# Altium schematic symbol library LibraryTD.SchLib: 40 symbols
Pins are listed as number, name and electrical type; pins without a type are passive.

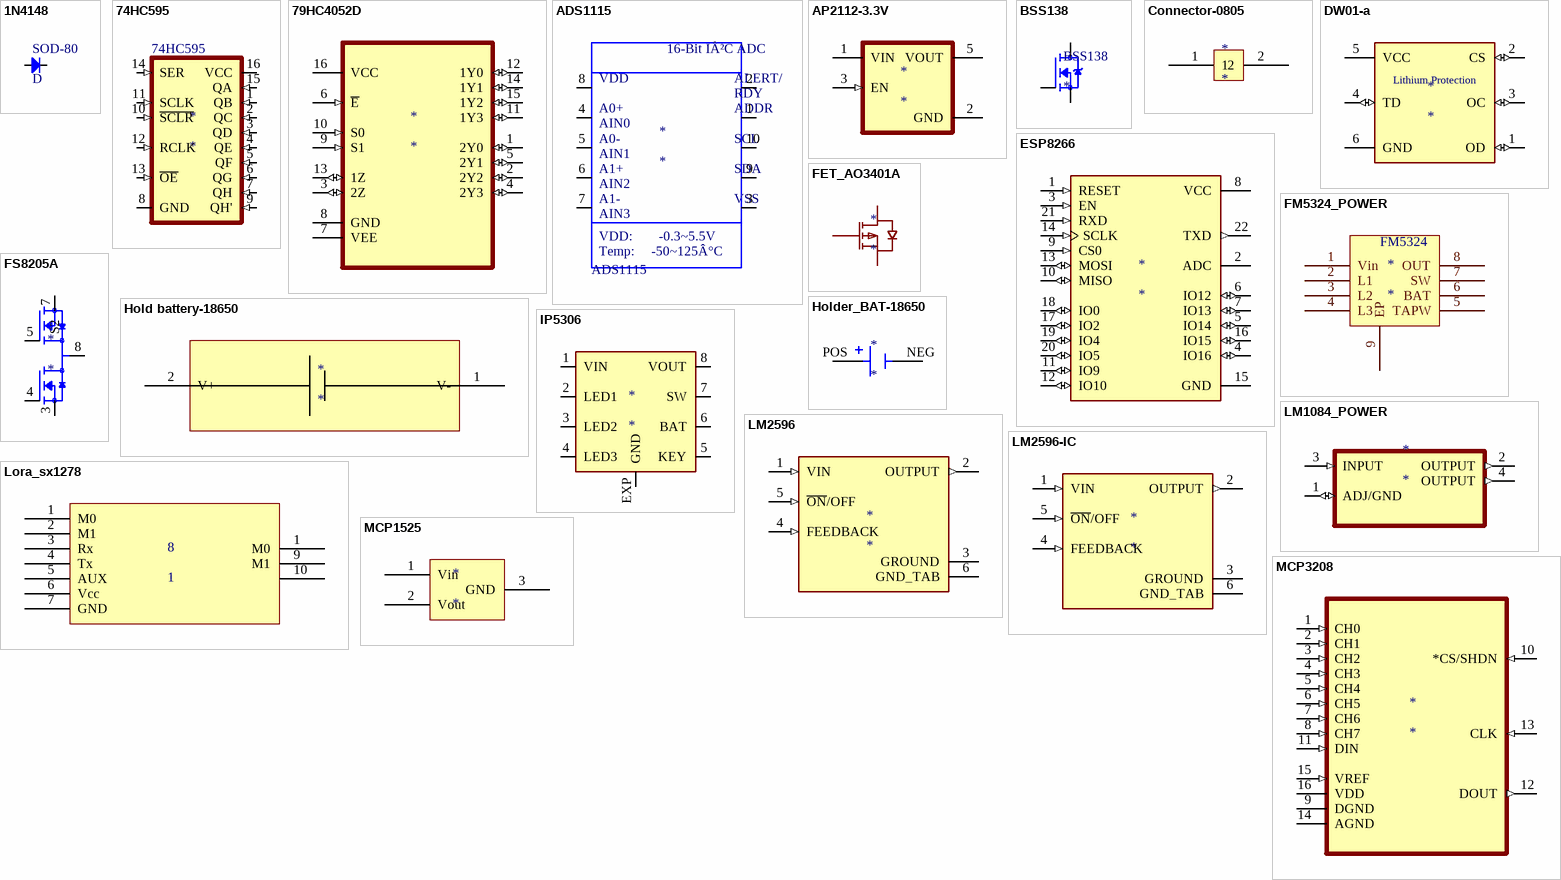
[diagram p0: symbols 1N4148 to MCP3208]

## 1N4148
designator SOD-80, comment D
footprint SOD-80
pins: 1 A, 2 K

## 74HC595
designator *
footprint SSOP-16PIN (IC 16PIN)
pins: 1 QB (in), 2 QC (in), 3 QD (in), 4 QE (in), 5 QF (in), 6 QG (in), 7 QH (in), 8 GND (power), 9 QH' (in), 10 ~{SCLR} (in), 11 SCLK (in), 12 RCLK (in), 13 ~{OE} (in), 14 SER (in), 15 QA (in), 16 VCC (power)

## 79HC4052D
designator *
footprint 74HC4052D
pins: 1 2Y0 (io), 2 2Y2 (io), 3 2Z (io), 4 2Y3 (io), 5 2Y1 (io), 6 ~{E} (in), 7 VEE (power), 8 GND, 9 S1 (in), 10 S0 (in), 11 1Y3 (io), 12 1Y0 (io), 13 1Z (io), 14 1Y1 (io), 15 1Y2 (io), 16 VCC (power)

## ADS1115
designator *
footprint MSOP-10
pins: 1 ADDR (io), 2 ALERT/RDY (io), 3 VSS (io), 4 AIN0 (io), 5 AIN1 (io), 6 AIN2 (io), 7 AIN3 (io), 8 VDD (io), 9 SDA (io), 10 SCL (io)
text: 16-Bit IÂ²C ADC; ALERT/; RDY; A0+; A0-; A1+; A1-; VDD:; -0.3~5.5V; Temp:; -50~125Â°C

## AP2112-3.3V
designator *
footprint sot-95
pins: 1 VIN (power), 2 GND (power), 3 EN (in), 5 VOUT (power)

## BSS138
designator BSS138
footprint SOT95
pins: 1 G, 2 S, 3 D

## Connector-0805
designator *
footprint Jump-CONNECT
pins: 1, 2

## DW01-a
designator *
footprint DW01-a
pins: 1 OD (io), 2 CS (io), 3 OC (io), 4 TD (io), 5 VCC (power), 6 GND (power)
text: Lithium Protection

## ESP8266
designator *
footprint ESP8266
pins: 1 RESET (in), 2 ADC, 3 EN (in), 4 IO16 (io), 5 IO14 (io), 6 IO12 (io), 7 IO13 (io), 8 VCC (power), 9 CS0 (in), 10 MISO (io), 11 IO9 (io), 12 IO10 (io), 13 MOSI (io), 14 SCLK (in), 15 GND (power), 16 IO15 (io), 17 IO2 (io), 18 IO0 (io), 19 IO4 (io), 20 IO5 (io), 21 RXD (in), 22 TXD (out)

## FET_AO3401A
designator *
footprint AO3401a
pins: 1 G, 2 S, 3 D

## FM5324_POWER
designator *
footprint SOIC_8
pins: 1 Vin, 2 L1, 3 L2, 4 L3, 5 TAPW, 6 BAT, 7 SW, 8 OUT, 9 EP
text: FM5324

## FS8205A
designator *
footprint FS8205A (mosfet)
pins: 1 D12, 2 S1, 3 S1, 4 G1, 5 G2, 6 S2, 7 S2, 8 D12

## Hold battery-18650
designator *
footprint Hold Battery 18650 x1
pins: 1 V-, 2 V+

## Holder_BAT-18650
designator *
footprint Holder_BAT_18650(DIP)
pins: NEG, POS

## IP5306
designator *
footprint SOIC_8
pins: 1 VIN (io), 2 LED1 (io), 3 LED2 (io), 4 LED3 (io), 5 KEY (io), 6 BAT (io), 7 SW (io), 8 VOUT (io), EXP GND (io)

## LM1084_POWER
designator *
footprint PCBComponent_1
pins: 1 ADJ/GND (io), 2 OUTPUT (out), 3 INPUT (in), 4 OUTPUT (out)

## LM2596
designator *
footprint LM2596 (Power)
pins: 1 VIN (in), 2 OUTPUT (out), 3 GROUND (power), 4 FEEDBACK (in), 5 ~{ON}/OFF (in), 6 GND_TAB (power)

## LM2596-IC
designator *
footprint TO254P1524X483
pins: 1 VIN (in), 2 OUTPUT (out), 3 GROUND (power), 4 FEEDBACK (in), 5 ~{ON}/OFF (in), 6 GND_TAB (power)

## Lora_sx1278
designator 8, comment 1
pins: 1 M0, 1 M0, 2 M1, 3 Rx, 4 Tx, 5 AUX, 6 Vcc, 7 GND, 9 M1, 10

## MCP1525
designator *
footprint SOT23-3
pins: 1 Vin, 2 Vout, 3 GND

## MCP3208
designator *
footprint MCP3208
pins: 1 CH0 (in), 2 CH1 (in), 3 CH2 (in), 4 CH3 (in), 5 CH4 (in), 6 CH5 (in), 7 CH6 (in), 8 CH7 (in), 9 DGND, 10 *CS/SHDN (in), 11 DIN (in), 12 DOUT (out), 13 CLK (in), 14 AGND, 15 VREF (in), 16 VDD (power)

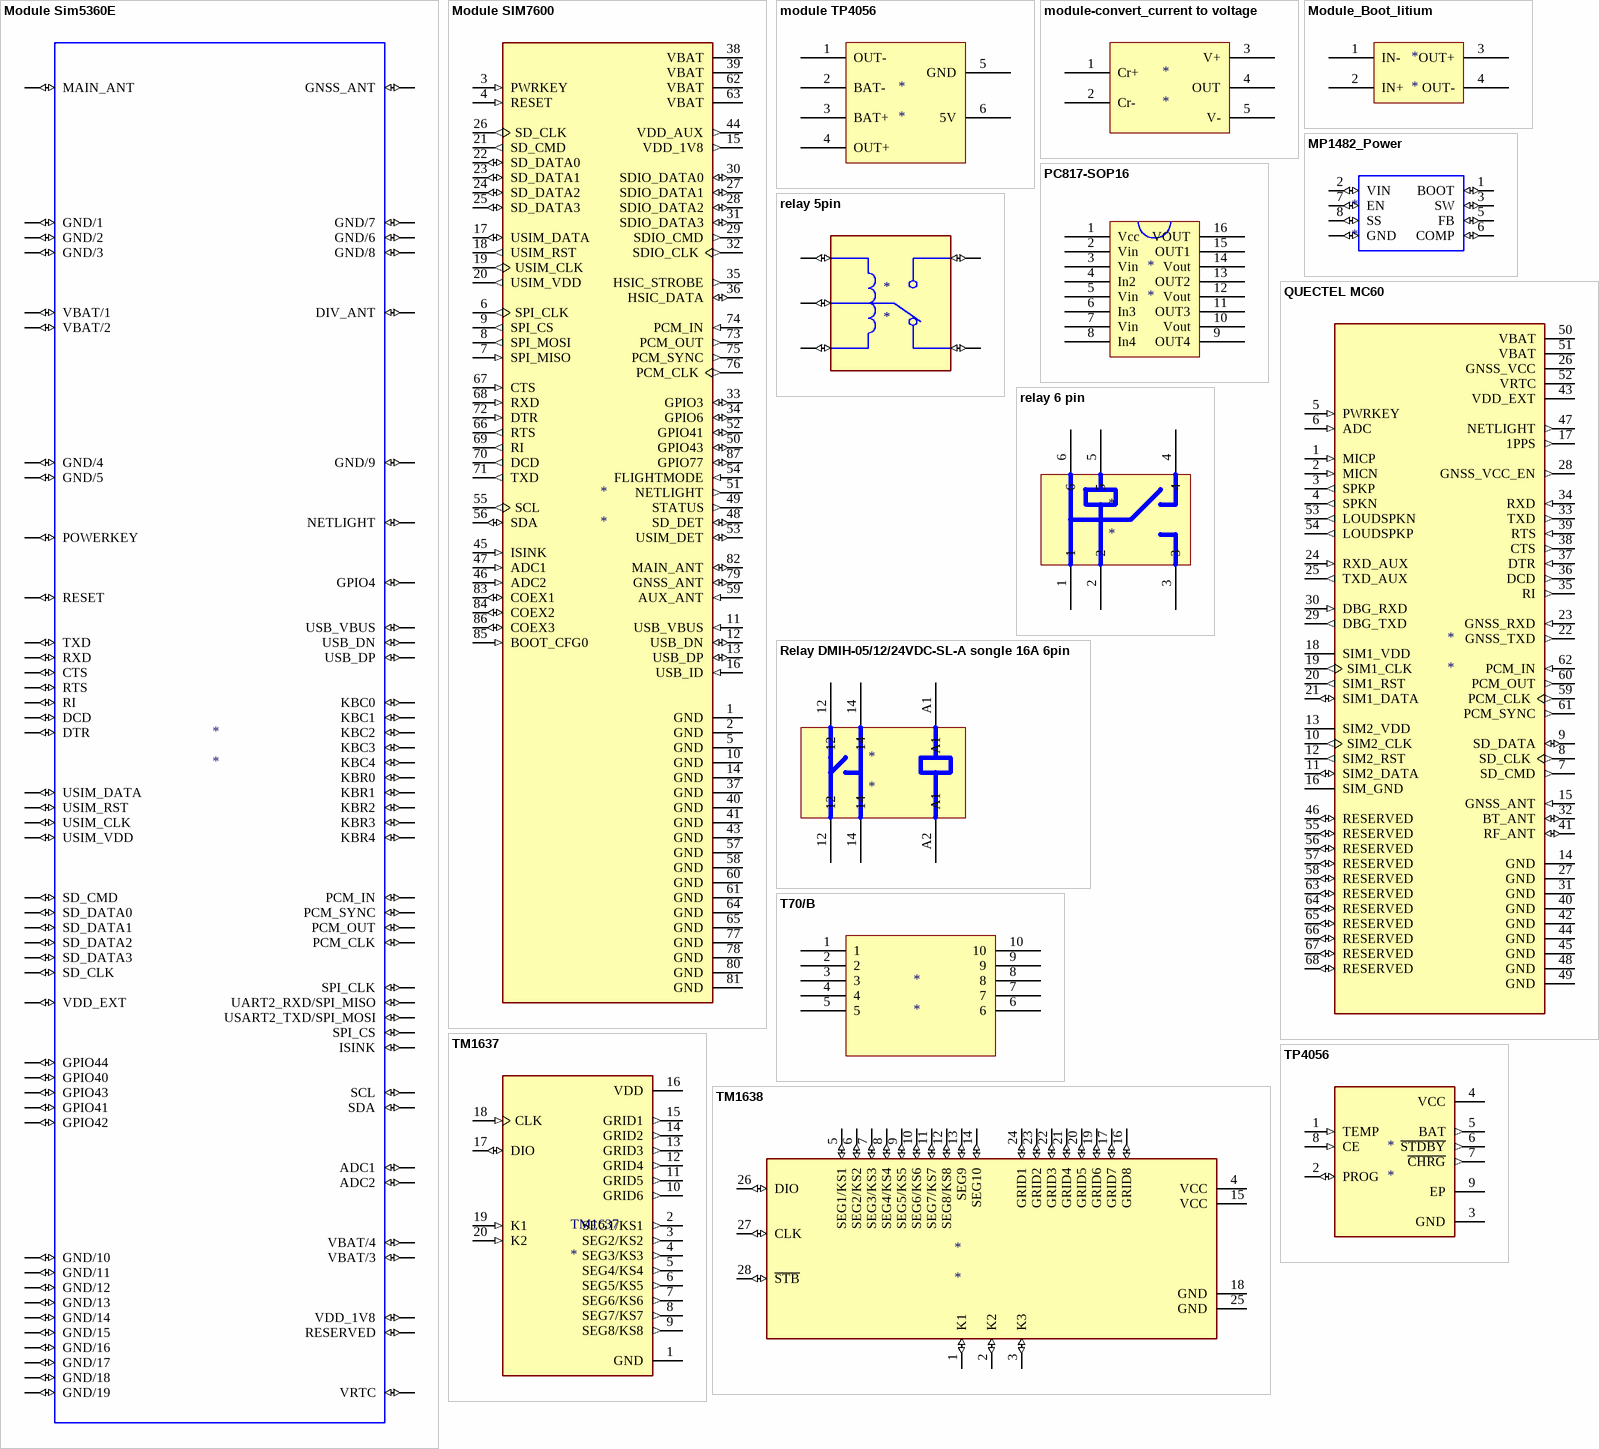
[diagram p1: symbols Module Sim5360E to TP4056]

## Module Sim5360E
designator *
footprint Module_sim5360E
pins: 1 GND/1 (io), 2 GND/2 (io), 3 POWERKEY (io), 4 RESET (io), 5 GND/3 (io), 6 SPI_CLK (io), 7 UART2_RXD/SPI_MISO (io), 8 USART2_TXD/SPI_MOSI (io), 9 SPI_CS (io), 10 GND/4 (io), 11 USB_VBUS (io), 12 USB_DN (io), 13 USB_DP (io), 14 GND/5 (io), 15 VDD_1V8 (io), 16 RESERVED (io), 17 USIM_DATA (io), 18 USIM_RST (io), 19 USIM_CLK (io), 20 USIM_VDD (io), 21 SD_CMD (io), 22 SD_DATA0 (io), 23 SD_DATA1 (io), 24 SD_DATA2 (io), 25 SD_DATA3 (io), 26 SD_CLK (io), 27 KBC1 (io), 28 KBC0 (io), 29 KBR0 (io), 30 KBR2 (io), 31 KBC2 (io), 32 KBC3 (io), 33 KBR1 (io), 34 KBR4 (io), 35 KBR3 (io), 36 KBC4 (io), 37 GND/6 (io), 38 VBAT/1 (io), 39 VBAT/2 (io), 40 GND/7 (io), 41 GND/8 (io), 42 VRTC (io), 43 GND/9 (io), 44 VDD_EXT (io), 45 ISINK (io), 46 ADC2 (io), 47 ADC1 (io), 48 GPIO44 (io), 49 GPIO40 (io), 50 GPIO43 (io), 51 NETLIGHT (io), 52 GPIO41 (io), 53 GPIO42 (io), 54 GPIO4 (io), 55 SCL (io), 56 SDA (io), 57 GND/10 (io), 58 GND/11 (io), 59 MAIN_ANT (io), 60 GND/12 (io), 61 GND/13 (io), 62 VBAT/3 (io), 63 VBAT/4 (io), 64 GND/14 (io), 65 GND/15 (io), 66 RTS (io), 67 CTS (io), 68 RXD (io), 69 RI (io), 70 DCD (io), 71 TXD (io), 72 DTR (io), 73 PCM_OUT (io), 74 PCM_IN (io), 75 PCM_SYNC (io), 76 PCM_CLK (io), 77 GND/16 (io), 78 GND/17 (io), 79 GNSS_ANT (io), 80 GND/18 (io), 81 GND/19 (io), 82 DIV_ANT (io)

## Module SIM7600
designator *
footprint Sim7600E
pins: 1 GND (power), 2 GND (power), 3 PWRKEY (in), 4 RESET (in), 5 GND (power), 6 SPI_CLK (out), 7 SPI_MISO (in), 8 SPI_MOSI (out), 9 SPI_CS (out), 10 GND (power), 11 USB_VBUS (in), 12 USB_DN (io), 13 USB_DP (io), 14 GND (power), 15 VDD_1V8 (out), 16 USB_ID (in), 17 USIM_DATA (io), 18 USIM_RST (out), 19 USIM_CLK (out), 20 USIM_VDD (out), 21 SD_CMD (out), 22 SD_DATA0 (io), 23 SD_DATA1 (io), 24 SD_DATA2 (io), 25 SD_DATA3 (io), 26 SD_CLK (out), 27 SDIO_DATA1 (io), 28 SDIO_DATA2 (io), 29 SDIO_CMD (out), 30 SDIO_DATA0 (io), 31 SDIO_DATA3 (io), 32 SDIO_CLK (out), 33 GPIO3 (io), 34 GPIO6 (io), 35 HSIC_STROBE (out), 36 HSIC_DATA (io), 37 GND (power), 38 VBAT (power), 39 VBAT (power), 40 GND (power), 41 GND (power), 43 GND (power), 44 VDD_AUX (out), 45 ISINK (in), 46 ADC2 (in), 47 ADC1 (in), 48 SD_DET (io), 49 STATUS (out), 50 GPIO43 (io), 51 NETLIGHT (out), 52 GPIO41 (io), 53 USIM_DET (io), 54 FLIGHTMODE (in), 55 SCL (out), 56 SDA (io), 57 GND (power), 58 GND (power), 59 AUX_ANT (in), 60 GND (power), 61 GND (power), 62 VBAT (power), 63 VBAT (power), 64 GND (power), 65 GND (power), 66 RTS (out), 67 CTS (in), 68 RXD (in), 69 RI (out), 70 DCD (out), 71 TXD (out), 72 DTR (in), 73 PCM_OUT (out), 74 PCM_IN (in), 75 PCM_SYNC (out), 76 PCM_CLK (out), 77 GND (power), 78 GND (power), 79 GNSS_ANT (io), 80 GND (power), 81 GND (power), 82 MAIN_ANT (io), 83 COEX1 (io), 84 COEX2 (io), 85 BOOT_CFG0 (in), 86 COEX3 (io), 87 GPIO77 (io)

## module TP4056
designator *
footprint TP4056_module
pins: 1 OUT-, 2 BAT-, 3 BAT+, 4 OUT+, 5 GND, 6 5V

## module-convert_current to voltage
designator *
footprint module convert I-U
pins: 1 Cr+, 2 Cr-, 3 V+, 4 OUT, 5 V-

## Module_Boot_litium
designator *
footprint boost_litium
pins: 1 IN-, 2 IN+, 3 OUT+, 4 OUT-

## MP1482_Power
designator *
footprint SOIC_8
pins: 1 BOOT (io), 2 VIN (io), 3 SW (io), 4 GND (io), 5 FB (io), 6 COMP (io), 7 EN (io), 8 SS (io), 9 GND (io)

## PC817-SOP16
designator *
footprint SSOP-16PIN (IC 16PIN)
pins: 1 Vcc, 2 Vin, 3 Vin, 4 In2, 5 Vin, 6 In3, 7 Vin, 8 In4, 9 OUT4, 10 Vout, 11 OUT3, 12 Vout, 13 OUT2, 14 Vout, 15 OUT1, 16 VOUT

## QUECTEL MC60
designator *
footprint Quectel MC60
pins: 1 MICP (in), 2 MICN (in), 3 SPKP (out), 4 SPKN (out), 5 PWRKEY (in), 6 ADC (in), 7 SD_CMD (out), 8 SD_CLK (out), 9 SD_DATA (io), 10 SIM2_CLK (out), 11 SIM2_DATA (io), 12 SIM2_RST (out), 13 SIM2_VDD (power), 14 GND (power), 15 GNSS_ANT (in), 16 SIM_GND (power), 17 1PPS (out), 18 SIM1_VDD (power), 19 SIM1_CLK (out), 20 SIM1_RST (out), 21 SIM1_DATA (io), 22 GNSS_TXD (out), 23 GNSS_RXD (in), 24 RXD_AUX (in), 25 TXD_AUX (out), 26 GNSS_VCC (power), 27 GND (power), 28 GNSS_VCC_EN (out), 29 DBG_TXD (out), 30 DBG_RXD (in), 31 GND (power), 32 BT_ANT (io), 33 TXD (out), 34 RXD (in), 35 RI (out), 36 DCD (out), 37 DTR (in), 38 CTS (out), 39 RTS (in), 40 GND (power), 41 RF_ANT (io), 42 GND (power), 43 VDD_EXT (power), 44 GND (power), 45 GND (power), 46 RESERVED (io), 47 NETLIGHT (out), 48 GND (power), 49 GND (power), 50 VBAT (power), 51 VBAT (power), 52 VRTC (power), 53 LOUDSPKN (out), 54 LOUDSPKP (out), 55 RESERVED (io), 56 RESERVED (io), 57 RESERVED (io), 58 RESERVED (io), 59 PCM_CLK (out), 60 PCM_OUT (out), 61 PCM_SYNC (out), 62 PCM_IN (in), 63 RESERVED (io), 64 RESERVED (io), 65 RESERVED (io), 66 RESERVED (io), 67 RESERVED (io), 68 RESERVED (io)

## relay 5pin
designator *
footprint Relay 5 pin
pins: P$1 (io), P$2 (io), P$3 (io), P$4 (io), P$5 (io)

## relay 6 pin
designator *
footprint relay 6 pin
pins: 1, 2, 3, 4, 5, 6

## Relay DMIH-05/12/24VDC-SL-A songle 16A 6pin
designator *
footprint Relay 6 pin SMIH-SL-A
pins: 12, 12, 14, 14, A1, A2 A1

## T70/B
designator *
footprint t70/b1
pins: 1, 2, 3, 4, 5, 6, 7, 8, 9, 10

## TM1637
designator TM1637
footprint SOIC20
pins: 1 GND (power), 2 SEG1/KS1 (out), 3 SEG2/KS2 (out), 4 SEG3/KS3 (out), 5 SEG4/KS4 (out), 6 SEG5/KS5 (out), 7 SEG6/KS6 (out), 8 SEG7/KS7 (out), 9 SEG8/KS8 (out), 10 GRID6 (out), 11 GRID5 (out), 12 GRID4 (out), 13 GRID3 (out), 14 GRID2 (out), 15 GRID1 (out), 16 VDD (power), 17 DIO (io), 18 CLK (in), 19 K1 (in), 20 K2 (in)

## TM1638
designator *
footprint SOIC28
pins: 1 K1 (io), 2 K2 (io), 3 K3 (io), 4 VCC (power), 5 SEG1/KS1 (io), 6 SEG2/KS2 (io), 7 SEG3/KS3 (io), 8 SEG4/KS4 (io), 9 SEG5/KS5 (io), 10 SEG6/KS6 (io), 11 SEG7/KS7 (io), 12 SEG8/KS8 (io), 13 SEG9 (io), 14 SEG10 (io), 15 VCC (power), 16 GRID8 (io), 17 GRID7 (io), 18 GND (power), 19 GRID6 (io), 20 GRID5 (io), 21 GRID4 (io), 22 GRID3 (io), 23 GRID2 (io), 24 GRID1 (io), 25 GND (power), 26 DIO (io), 27 CLK (io), 28 ~{STB} (io)

## TP4056
designator *
footprint TP4056
pins: 1 TEMP (in), 2 PROG (io), 3 GND (power), 4 VCC (power), 5 BAT (out), 6 ~{STDBY} (out), 7 ~{CHRG} (out), 8 CE (in), 9 EP

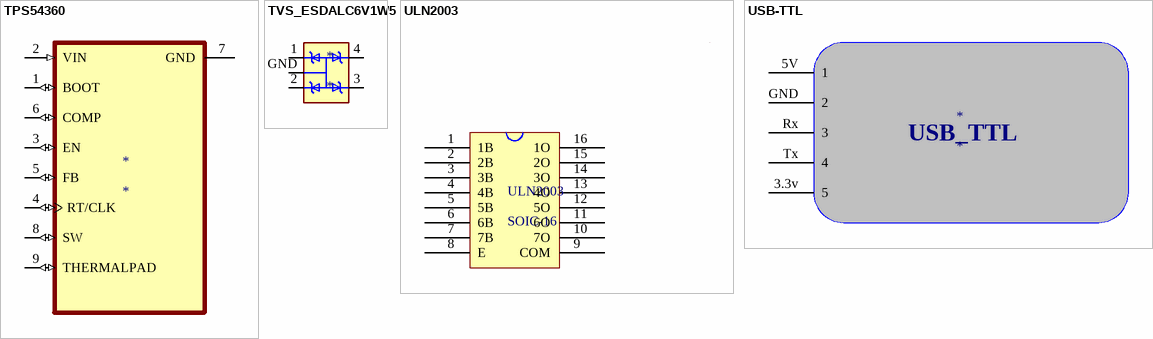
[diagram p2: symbols TPS54360 to USB-TTL]

## TPS54360
designator *
footprint SOIC_8
pins: 1 BOOT (io), 2 VIN (in), 3 EN (io), 4 RT/CLK (io), 5 FB (io), 6 COMP (io), 7 GND (power), 8 SW (io), 9 THERMALPAD (io)

## TVS_ESDALC6V1W5
designator *
footprint TVS_ESDALC6V1W5
pins: 1 I/01 (io), 2 I/02 (io), 3 I/03 (io), 4 I/04 (io), GND (power)

## ULN2003
designator ULN2003, comment SOIC-16
footprint SOIC-16
pins: 1 1B, 2 2B, 3 3B, 4 4B, 5 5B, 6 6B, 7 7B, 8 E, 9 COM, 10 7O, 11 6O, 12 5O, 13 4O, 14 3O, 15 2O, 16 1O

## USB-TTL
designator *
footprint Rao-4
pins: 3.3v 5, 5V 1, GND 2, Rx 3, Tx 4
text: USB_TTL